# Altium schematic symbol library NCP1117ST33T3G.SchLib: 1 symbol
Pins are listed as number, name and electrical type; pins without a type are passive.

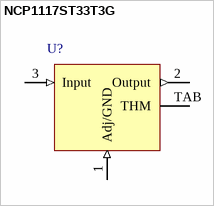
[diagram p0: symbol NCP1117ST33T3G]

## NCP1117ST33T3G
designator U?
1.0 A Low Dropout Positive and Adjustable Voltage Regulator
pins: 1 Adj/GND (in), 2 Output (out), 3 Input (in), TAB THM